# Altium footprint library Speaker Library.PcbLib: 36 footprints (part 2 of 3)
Each footprint in its own frame and in the unit in brackets; x right, y up, seen from the top. Pads: shape width x height; smd on the part's side, far side on the other; paste and mask are expansions set on the pad; w line width, h text height; cw(c..) or ccw(c..) is an arc to the next point about the centre after c.
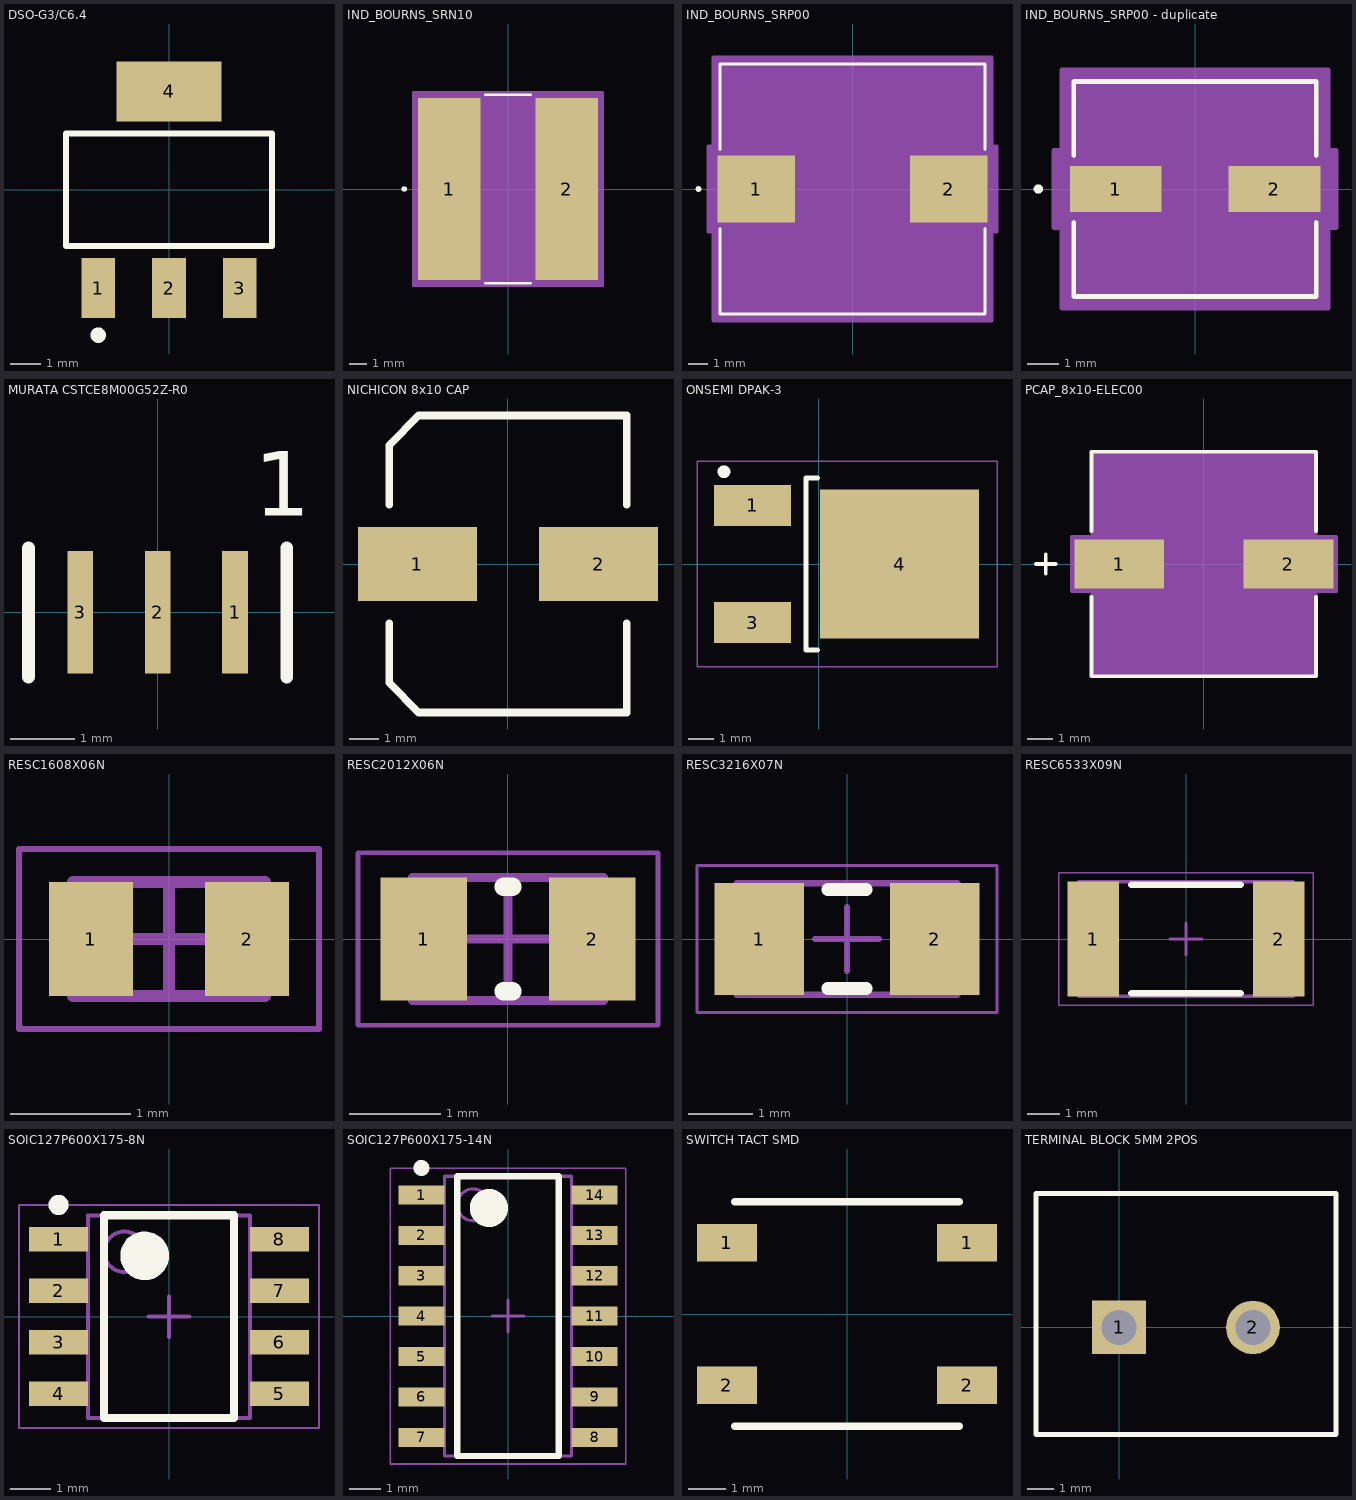
[diagram p1: the footprints below, top view; thin cyan lines are the x and y axes]

## DSO-G3/C6.4 [mm] "SOT-223/SC-73; 4 Leads; Body 6.7 x 7.3 mm, inc. leads (LxW max)"
height 1.8
pads (4):
  rect 1.1x1.95 smd: 1(-2.3,-3.2) 2(0,-3.2) 3(2.3,-3.2)
  rect 3.4x1.95 smd: 4(0,3.2)
Top Overlay:
  circle w0.25: c-2.3,-4.725 r0.125
  lines w0.2: -3.35,-1.825 -3.35,1.825 3.35,1.825 3.35,-1.825 -3.35,-1.825

## IND_BOURNS_SRN10 [mil]
pads (2):
  rect 138x402 smd: 1(-130,0) 2(130,0)
Top Overlay:
  circle w6: c-229,0 r3
  lines w6: -49.93,-208 49.93,-208 ; -49.93,208 49.93,208
Mechanical 13:
  circle w0: c-196,0 r3
Mechanical 15:
  region: -209,-211 -209,211 -209,213 209,213 209,211 209,-211 209,-213 -209,-213
  lines w6: -209,-213 -209,-211 -209,211 -209,213 209,213 209,211 209,-211 209,-213 -209,-213
3D body "IND_BOURNS_SRN1060.stp": height 236, standoff 0, extent -199,-203.01 199,203.01

## IND_BOURNS_SRP00 [mil]
pads (2):
  rect 160x138 smd: 1(-199.5,0) 2(199.5,0)
Top Overlay:
  circle w6: c-319.5,0 r3
  lines w6: -274.5,-82.1 -274.5,-259 274.5,-259 274.5,-82.1 ; -274.5,82.1 -274.5,259 274.5,259 274.5,82.1
Mechanical 13:
  circle w0: c-249.5,0 r3
Mechanical 15:
  region: -289.5,-89 -299.5,-89 -299.5,89 -289.5,89 -289.5,274 289.5,274 289.5,89 299.5,89 299.5,-89 289.5,-89 289.5,-274 -289.5,-274
  lines w6: -299.5,-89 -299.5,89 -289.5,89 -289.5,274 289.5,274 289.5,89 299.5,89 299.5,-89 289.5,-89 289.5,-274 -289.5,-274 -289.5,-89 -299.5,-89
3D body "IND_BOURNS_SRP1270.stp": height 276.11, standoff 0, extent -269.49,-253.99 269.51,254.01

## IND_BOURNS_SRP00 - duplicate [mil]
pads (2):
  rect 117x59 smd: 1(-101,0) 2(101,0)
Top Overlay:
  circle w6: c-199.5,0 r3
  lines w6: -154.5,-42.6 -154.5,-137 154.5,-137 154.5,-42.6 ; -154.5,42.6 -154.5,137 154.5,137 154.5,42.6
Mechanical 13:
  circle w0: c-129.5,0 r3
Mechanical 15:
  region: -169.5,-49.5 -179.5,-49.5 -179.5,49.5 -169.5,49.5 -169.5,152 169.5,152 169.5,49.5 179.5,49.5 179.5,-49.5 169.5,-49.5 169.5,-152 -169.5,-152
  lines w6: -179.5,-49.5 -179.5,49.5 -169.5,49.5 -169.5,152 169.5,152 169.5,49.5 179.5,49.5 179.5,-49.5 169.5,-49.5 169.5,-152 -169.5,-152 -169.5,-49.5 -179.5,-49.5
3D body "IND_BOURNS_SRP7030F.stp": height 126.11, standoff 0, extent -149.5,-132 149.5,132

## MURATA CSTCE8M00G52Z-R0 [mm]
pads (3):
  rect 0.4x1.9 smd: 1(1.2,0) 2(0,0) 3(-1.2,0)
Top Overlay:
  lines w0.2: -2,-1 -2,1 ; 2,-1 2,1
  text "1" at 1.5,1.5 h1

## NICHICON 8x10 CAP [mm]
pads (2):
  rect 4x2.5 smd: 1(-3.05,0) 2(3.05,0)
Top Overlay:
  lines w0.254: -4,-2 -4,-4 -3,-5 4,-5 4,-2 ; -4,2 -4,4 -3,5 4,5 4,2

## ONSEMI DPAK-3 [mm]
pads (3):
  rect 3x1.6 smd: 1(-2.58,2.285) 3(-2.58,-2.285)
  rect 6.2x5.8 smd: 4(3.15,0)
Top Overlay:
  circle w0.25: c-3.7,3.6 r0.125
  lines w0.2: -0.05,-3.35 -0.5,-3.35 -0.5,3.35 -0.05,3.35
Mechanical 15:
  lines w0.05: -4.75,-4 6.95,-4 6.95,4 -4.75,4 -4.75,-4
  lines w0.1: 0.6,0 1.6,0 ; 1.1,-0.5 1.1,0.5

## PCAP_8x10-ELEC00 [mil]
pads (2):
  rect 138x75 smd: 1(-130,0) 2(130,0)
Top Overlay:
  lines w6: -258,0 -228,0 ; -243,-15 -243,15 ; -172.5,-50.6 -172.5,-172.5 172.5,-172.5 172.5,-50.6 ; -172.5,50.6 -172.5,172.5 172.5,172.5 172.5,50.6
Mechanical 15:
  region: -171.5,-41.5 -203,-41.5 -203,41.5 -171.5,41.5 -171.5,171.5 171.5,171.5 171.5,41.5 203,41.5 203,-41.5 171.5,-41.5 171.5,-171.5 -171.5,-171.5
  lines w6: -203,-41.5 -203,41.5 -171.5,41.5 -171.5,171.5 171.5,171.5 171.5,41.5 203,41.5 203,-41.5 171.5,-41.5 171.5,-171.5 -171.5,-171.5 -171.5,-41.5 -203,-41.5
3D body "PCAP_8x10-ELECT.stp": height 407, standoff 0, extent -183,-167.5 183,167.5

## RESC1608X06N [mm] "Chip Resistor, 2-Leads, Body 1.55x0.85mm, IPC Medium Density"
height 0.55
pads (2):
  rect 0.7x0.95 smd: 1(-0.65,0) 2(0.65,0)
Mechanical 13:
  lines w0.1: -0.8,-0.475 0.8,-0.475 0.8,0.475 -0.8,0.475 -0.8,-0.475
Mechanical 15:
  lines w0.05: -1.25,-0.75 1.25,-0.75 1.25,0.75 -1.25,0.75 -1.25,-0.75
  lines w0.1: -0.475,0 0.475,0 ; 0,-0.475 0,0.475
3D body: height 0.55, standoff 0, extent 0.52,-0.475 0.8,0.475
3D body: height 0.55, standoff 0, extent -0.8,-0.475 -0.52,0.475
3D body: height 0.55, standoff 0, extent -0.52,-0.475 0.52,0.475

## RESC2012X06N [mm] "Chip Resistor, 2-Leads, Body 2.00x1.25mm, IPC Medium Density"
height 0.6
pads (2):
  rect 0.95x1.35 smd: 1(-0.925,0) 2(0.925,0)
Top Overlay:
  lines w0.2: -0.05,-0.575 0.05,-0.575 ; -0.05,0.575 0.05,0.575
Mechanical 13:
  lines w0.1: -1.05,-0.675 1.05,-0.675 1.05,0.675 -1.05,0.675 -1.05,-0.675
Mechanical 15:
  lines w0.05: -1.65,-0.95 1.65,-0.95 1.65,0.95 -1.65,0.95 -1.65,-0.95
  lines w0.1: -0.5,0 0.5,0 ; 0,-0.5 0,0.5
3D body: height 0.6, standoff 0, extent 0.75,-0.675 1.05,0.675
3D body: height 0.6, standoff 0, extent -1.05,-0.675 -0.75,0.675
3D body: height 0.6, standoff 0, extent -0.75,-0.675 0.75,0.675

## RESC3216X07N [mm] "Chip Resistor, 2-Leads, Body 3.20x1.60mm, IPC Medium Density"
height 0.7
pads (2):
  rect 1.4x1.75 smd: 1(-1.375,0) 2(1.375,0)
Top Overlay:
  lines w0.2: -0.3,-0.775 0.3,-0.775 ; -0.3,0.775 0.3,0.775
Mechanical 13:
  lines w0.1: -1.725,-0.875 1.725,-0.875 1.725,0.875 -1.725,0.875 -1.725,-0.875
Mechanical 15:
  lines w0.05: -2.35,-1.15 2.35,-1.15 2.35,1.15 -2.35,1.15 -2.35,-1.15
  lines w0.1: -0.5,0 0.5,0 ; 0,-0.5 0,0.5
3D body: height 0.7, standoff 0, extent 1.225,-0.875 1.725,0.875
3D body: height 0.7, standoff 0, extent -1.725,-0.875 -1.225,0.875
3D body: height 0.7, standoff 0, extent -1.225,-0.875 1.225,0.875

## RESC6533X09N [mm] "Chip Resistor, 2-Leads, Body 6.45x3.35mm, IPC Medium Density"
height 0.9
pads (2):
  rect 1.6x3.55 smd: 1(-2.875,0) 2(2.875,0)
Top Overlay:
  lines w0.2: -1.7,-1.675 1.7,-1.675 ; -1.7,1.675 1.7,1.675
Mechanical 13:
  lines w0.1: -3.325,-1.775 -3.325,1.775 3.325,1.775 3.325,-1.775 -3.325,-1.775
Mechanical 15:
  lines w0.05: -3.95,-2.05 -3.95,2.05 3.95,2.05 3.95,-2.05 -3.95,-2.05
  lines w0.1: -0.5,0 0.5,0 ; 0,-0.5 0,0.5
3D body: height 0.9, standoff 0, extent -2.375,-1.775 2.375,1.775
3D body: height 0.9, standoff 0, extent -3.325,-1.775 -2.375,1.775
3D body: height 0.9, standoff 0, extent 2.375,-1.775 3.325,1.775

## SOIC127P600X175-8N [mm] "SOIC, 8-Leads, Body 4.90x3.90mm, Pitch 1.27mm, IPC Medium Density"
height 1.75
pads (8):
  rect 1.45x0.6 smd: 1(-2.725,1.905) 2(-2.725,0.635) 3(-2.725,-0.635) 4(-2.725,-1.905) 5(2.725,-1.905) 6(2.725,-0.635) 7(2.725,0.635) 8(2.725,1.905)
Top Overlay:
  circle w0.25: c-2.725,2.755 r0.125
  circle w0.6: c-0.6,1.5 r0.3
  lines w0.2: -1.6,-2.5 -1.6,2.5 1.6,2.5 1.6,-2.5 -1.6,-2.5
Mechanical 13:
  circle w0.1: c-1.1,1.6 r0.5
  lines w0.1: -2,-2.5 -2,2.5 2,2.5 2,-2.5 -2,-2.5
Mechanical 15:
  lines w0.05: -3.7,-2.75 -3.7,2.75 3.7,2.75 3.7,-2.75 -3.7,-2.75
  lines w0.1: -0.5,0 0.5,0 ; 0,-0.5 0,0.5
3D body: height 1.75, standoff 0.1, extent -2,-2.5 2,2.5

## SOIC127P600X175-14N [mm] "SOIC, 14-Leads, Body 8.65x3.90mm, Pitch 1.27mm, IPC Medium Density"
height 1.75
pads (14):
  rect 1.45x0.6 smd: 1(-2.725,3.81) 2(-2.725,2.54) 3(-2.725,1.27) 4(-2.725,0) 5(-2.725,-1.27) 6(-2.725,-2.54) 7(-2.725,-3.81) 8(2.725,-3.81) 9(2.725,-2.54) 10(2.725,-1.27) 11(2.725,0) 12(2.725,1.27) 13(2.725,2.54) 14(2.725,3.81)
Top Overlay:
  circle w0.6: c-0.6,3.4 r0.3
  circle w0.25: c-2.725,4.66 r0.125
  lines w0.2: -1.6,-4.4 1.6,-4.4 1.6,4.4 -1.6,4.4 -1.6,-4.4
Mechanical 13:
  circle w0.1: c-1.1,3.5 r0.5
  lines w0.1: -2,-4.4 2,-4.4 2,4.4 -2,4.4 -2,-4.4
Mechanical 15:
  lines w0.05: -3.7,-4.65 3.7,-4.65 3.7,4.65 -3.7,4.65 -3.7,-4.65
  lines w0.1: -0.5,0 0.5,0 ; 0,-0.5 0,0.5
3D body: height 1.75, standoff 0.1, extent -2,-4.4 2,4.4

## SWITCH TACT SMD [mm]
pads (4):
  rect 1.6x1 smd: 1(-3.2,1.9) 1(3.2,1.9) 2(-3.2,-1.9) 2(3.2,-1.9)
Top Overlay:
  lines w0.2: -3,-3 3,-3 ; -3,3 3,3

## TERMINAL BLOCK 5MM 2POS [mm]
pads (2):
  rect 2x2 hole 1.3: 1(0,0)
  round 2 hole 1.3: 2(5,0)
Top Overlay:
  lines w0.2: -3.1,-4 -3.1,5 8.1,5 8.1,-4 -3.1,-4